# Altium schematic symbol library LIS2MDL.SchLib: 1 symbol
Pins are listed as number, name and electrical type; pins without a type are passive.

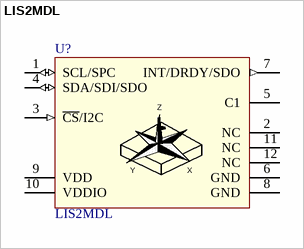
[diagram p0: symbol LIS2MDL]

## LIS2MDL
designator U?
Digital output magnetic sensor: / ultralow-power, high-performance 3-axis magnetometer; value: LIS2MDL
footprint LGA-12L (2.0x2.0x0.7) (LGA, 12-Leads, Body 2,00x2,00mmx0,70mm, Pitch 0,50mm)
pins: 1 SCL/SPC (io), 2 NC "Internally not connected. Can be tied to Vdd, Vdd_IO, or GND", 3 ~{CS}/I2C (in), 4 SDA/SDI/SDO (io), 5 C1, 6 GND (power), 7 INT/DRDY/SDO (out), 8 GND (power), 9 VDD (power), 10 VDDIO (power), 11 NC "Internally not connected. Can be tied to Vdd, Vdd_IO, or GND", 12 NC "Internally not connected. Can be tied to Vdd, Vdd_IO, or GND"
text: Z; Y; X